# Altium schematic symbol library MOSFET N SOT-23-6.Schlib: 1 symbol
Pins are listed as number, name and electrical type; pins without a type are passive.

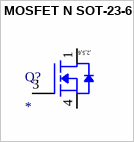
[diagram p0: symbol MOSFET N SOT-23-6]

## MOSFET N SOT-23-6
designator Q?
pins: 1 DRAIN, 2 DRAIN, 3 GATE, 4 SOURCE, 5 DRAIN, 6 DRAIN
text: ,2,5,6